# Altium footprint library CN_USB_A_PCB.PcbLib: 1 footprints
Each footprint in its own frame and in the unit in brackets; x right, y up, seen from the top. Pads: shape width x height; smd on the part's side, far side on the other; paste and mask are expansions set on the pad; w line width, h text height; cw(c..) or ccw(c..) is an arc to the next point about the centre after c.
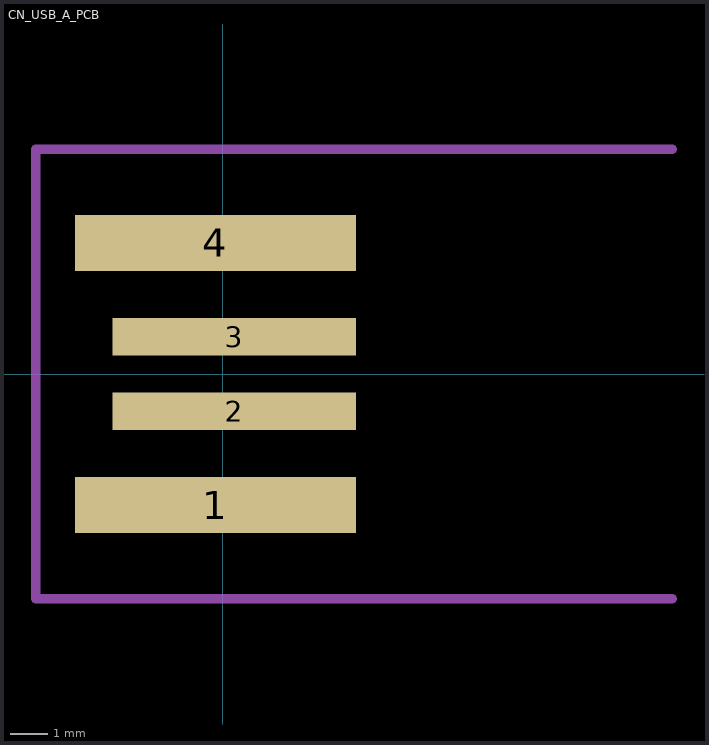
[diagram p0: the footprint, top view; thin cyan lines are the x and y axes]

## CN_USB_A_PCB [mm] "USB A Connector PCB Layout"
pads (4):
  rect 7.5x1.5 smd: 1(-0.2,-3.5) 4(-0.2,3.5)
  rect 6.5x1 smd: 2(0.3,-1) 3(0.3,1)
Mechanical 8:
  lines w0.254: 12,-6 -5,-6 -5,6 12,6